# EAGLE library part SA56004AD,118 (library CapteurTemperature)
Board Mount Temperature Sensors I2C LOC +/- 2OC AND Source: Datasheet <http://www.nxp.com/docs/en/data-sheet/SA56004X.pdf>
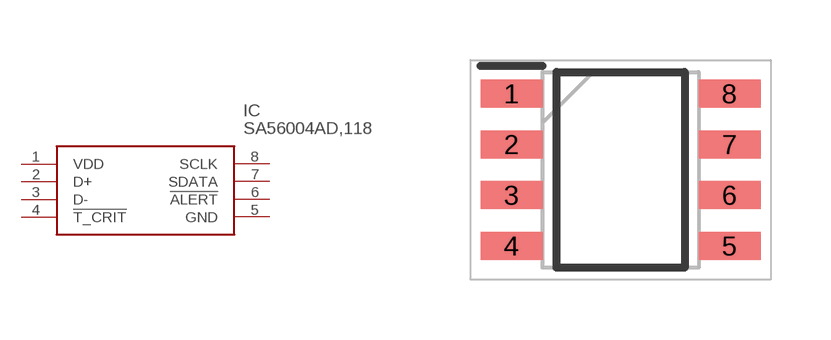
[diagram p0: symbol with the pads of SOIC127P600X175-8N; footprint SOIC127P600X175-8N]

Designator prefix IC

## SA56004AD,118 (Arrow_Part_Number: SA56004AD,118; Arrow_Price-Stock: https://www.arrow.com/en/products/sa56004ad118/nxp-semiconductors?region=nac; Description: Board Mount Temperature Sensors I2C LOC +/- 2OC AND; Height: 1.75mm; Manufacturer_Name: NXP; Manufacturer_Part_Number: SA56004AD,118; Mouser_Part_Number: 771-SA56004AD118; Mouser_Price-Stock: https://www.mouser.co.uk/ProductDetail/NXP-Semiconductors/SA56004AD118?qs=LOCUfHb8d9uULHX2Om8wPw%3D%3D)  [SOIC127P600X175-8N]
1  VDD
2  D+
3  D-
4  !T_CRIT
5  GND
6  !ALERT
7  SDATA
8  SCLK

## Footprint SOIC127P600X175-8N (pad centres in mm)
SOT96-1_2022
smd 1.55 x 0.7: 1 -2.725,1.905; 2 -2.725,0.635; 3 -2.725,-0.635; 4 -2.725,-1.905; 5 2.725,-1.905; 6 2.725,-0.635; 7 2.725,0.635; 8 2.725,1.905